# Altium integrated library LM555CM_NOPB.IntLib: 1 symbol
Pins are listed as number, name and electrical type; pins without a type are passive.

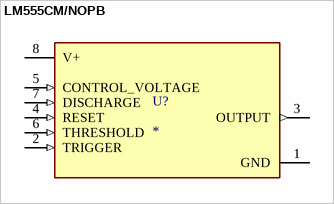
[diagram p0: symbol LM555CM/NOPB]

## LM555CM/NOPB
designator U?
Highly Stable 555 Timer; MP: LM555CM/NOPB; MF: Texas Instruments; Price: None; Availability: In Stock; Package: SOIC-8 Texas Instruments; Value: *; SnapEDA_Link: https://www.snapeda.com/parts/LM555CM/NOPB/Texas+Instruments/view-part/?ref=snap; Purchase-URL: https://pricing.snapeda.com/search/part/LM555CM/NOPB/?ref=eda; Check_prices: https://www.snapeda.com/parts/LM555CM/NOPB/Texas+Instruments/view-part/?ref=eda
footprint SOIC127P599X175-8N
pins: 1 GND (power), 2 TRIGGER (in), 3 OUTPUT (out), 4 RESET (in), 5 CONTROL_VOLTAGE (in), 6 THRESHOLD (in), 7 DISCHARGE (in), 8 V+ (power)